# Altium footprint library ESC32.PcbLib: 26 footprints (part 1 of 2)
Each footprint in its own frame and in the unit in brackets; x right, y up, seen from the top. Pads: shape width x height; smd on the part's side, far side on the other; paste and mask are expansions set on the pad; w line width, h text height; cw(c..) or ccw(c..) is an arc to the next point about the centre after c.
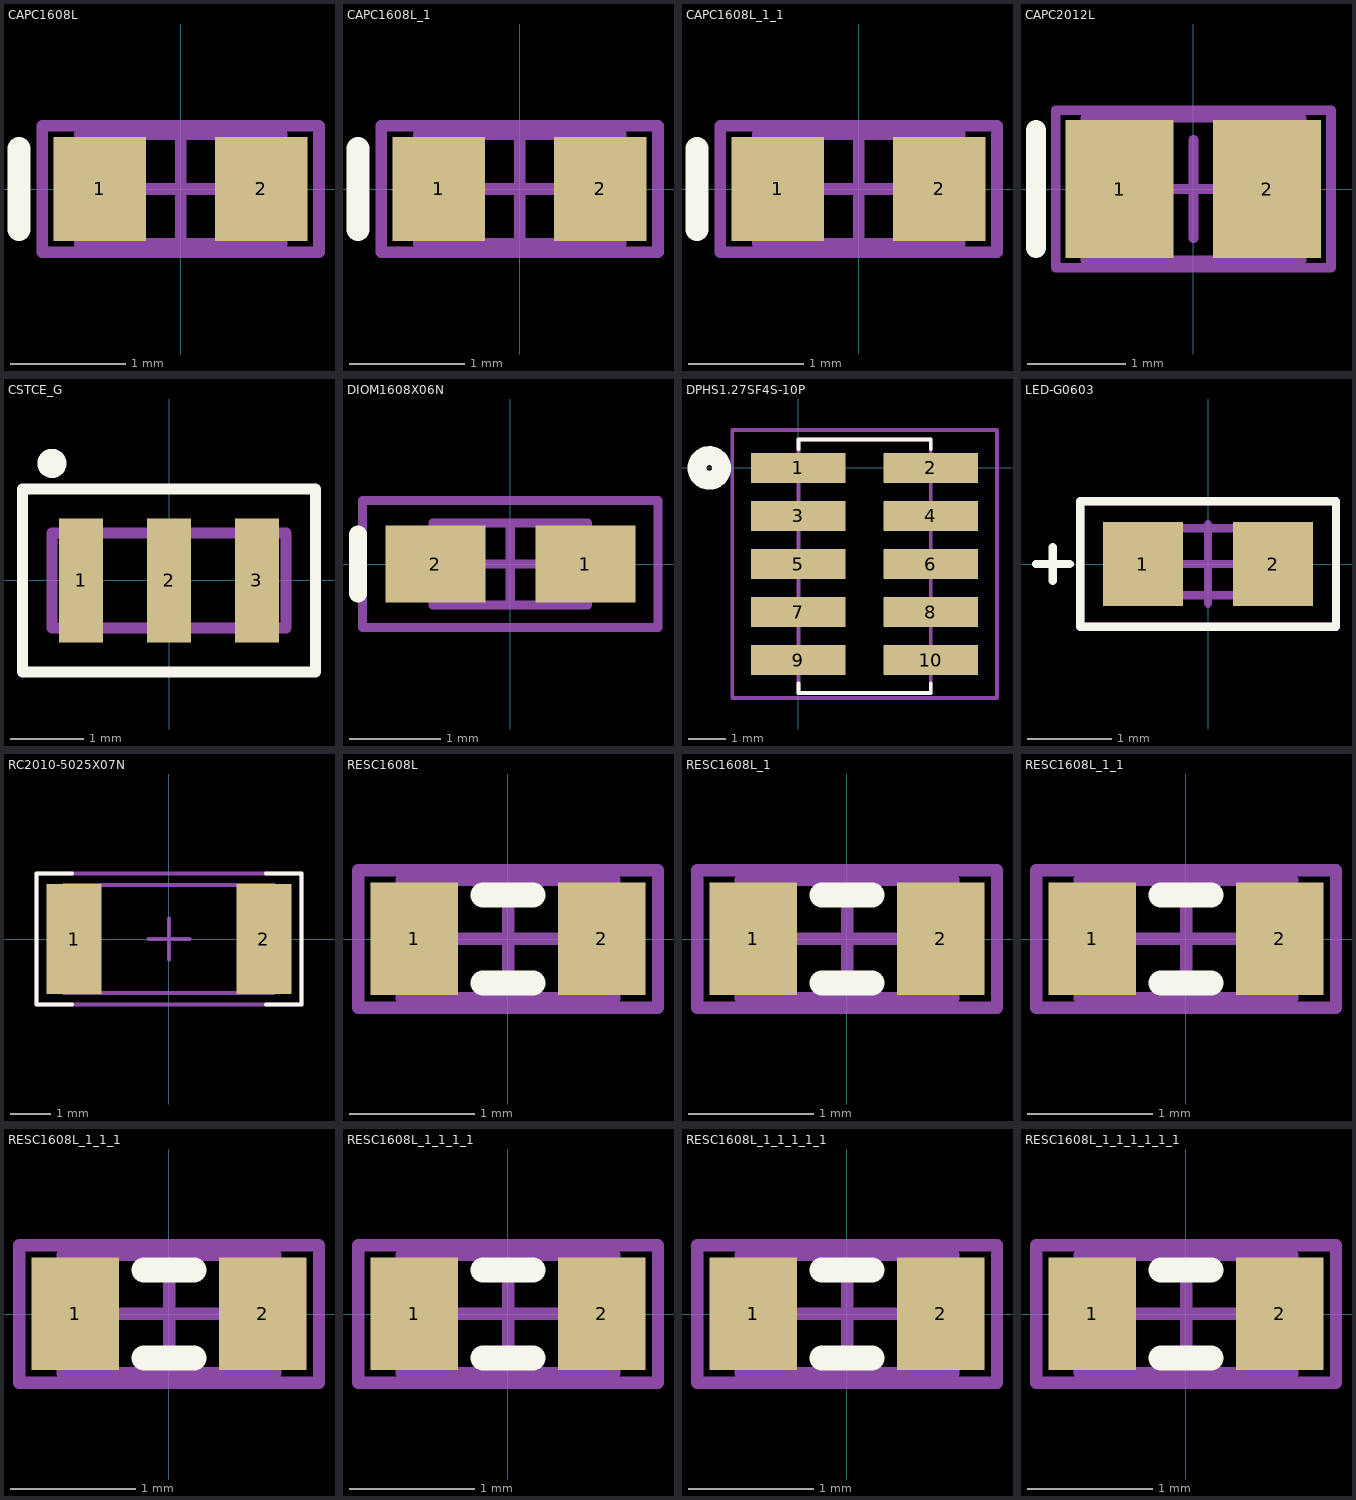
[diagram p0: the footprints below, top view; thin cyan lines are the x and y axes]

## CAPC1608L [mm]
pads (2):
  rect 0.8x0.9 smd: 1(-0.7,0) 2(0.7,0)
Top Overlay:
  lines w0.2: -1.4,-0.35 -1.4,0.35
Mechanical 13:
  lines w0.1: -0.875,-0.475 -0.875,0.475 0.875,0.475 0.875,-0.475 -0.875,-0.475
Mechanical 15:
  lines w0.1: -0.475,0 0.475,0 ; 0,-0.475 0,0.475 ; -1.2,-0.55 -1.2,0.55 1.2,0.55 1.2,-0.55 -1.2,-0.55
3D body: height 0.85, standoff 0, extent -0.875,-0.475 0.875,0.475

## CAPC1608L_1 [mm]
pads (2):
  rect 0.8x0.9 smd: 1(-0.7,0) 2(0.7,0)
Top Overlay:
  lines w0.2: -1.4,-0.35 -1.4,0.35
Mechanical 13:
  lines w0.1: -0.875,-0.475 -0.875,0.475 0.875,0.475 0.875,-0.475 -0.875,-0.475
Mechanical 15:
  lines w0.1: -0.475,0 0.475,0 ; 0,-0.475 0,0.475 ; -1.2,-0.55 -1.2,0.55 1.2,0.55 1.2,-0.55 -1.2,-0.55
3D body: height 0.85, standoff 0, extent -0.875,-0.475 0.875,0.475

## CAPC1608L_1_1 [mm]
pads (2):
  rect 0.8x0.9 smd: 1(-0.7,0) 2(0.7,0)
Top Overlay:
  lines w0.2: -1.4,-0.35 -1.4,0.35
Mechanical 13:
  lines w0.1: -0.875,-0.475 -0.875,0.475 0.875,0.475 0.875,-0.475 -0.875,-0.475
Mechanical 15:
  lines w0.1: -0.475,0 0.475,0 ; 0,-0.475 0,0.475 ; -1.2,-0.55 -1.2,0.55 1.2,0.55 1.2,-0.55 -1.2,-0.55
3D body: height 0.85, standoff 0, extent -0.875,-0.475 0.875,0.475

## CAPC2012L [mm]
pads (2):
  rect 1.1x1.4 smd: 1(-0.75,0) 2(0.75,0)
Top Overlay:
  lines w0.2: -1.6,-0.6 -1.6,0.6
Mechanical 13:
  lines w0.1: -1.1,-0.725 1.1,-0.725 1.1,0.725 -1.1,0.725 -1.1,-0.725
Mechanical 15:
  lines w0.1: -0.5,0 0.5,0 ; 0,-0.5 0,0.5 ; -1.4,-0.8 1.4,-0.8 1.4,0.8 -1.4,0.8 -1.4,-0.8
3D body: height 1.1, standoff 0, extent -1.1,-0.725 1.1,0.725

## CSTCE_G [mm]
pads (3):
  rect 0.6x1.7 smd: 1(-1.2,0) 2(0,0) 3(1.2,0)
Top Overlay:
  circle w0.2: c-1.6,1.6 r0.1
  lines w0.15: -2,-1.25 2,-1.25 2,1.25 -2,1.25 -2,-1.25
Mechanical 13:
  lines w0.15: -1.6,-0.65 -1.6,0.65 1.6,0.65 1.6,-0.65 -1.6,-0.65
3D body: height 0.7, standoff 0, extent -1.6,-0.65 1.6,0.65

## DIOM1608X06N [mm]
pads (2):
  rect 1.1x0.85 smd: 1(0.825,0) 2(-0.825,0)
Top Overlay:
  lines w0.2: -1.675,-0.325 -1.675,0.325
Mechanical 13:
  rectangle: -0.85,-0.45 -0.621,0.45
  lines w0.1: -0.85,-0.45 -0.85,0.45 0.85,0.45 0.85,-0.45 -0.85,-0.45
Mechanical 15:
  lines w0.1: -0.45,0 0.45,0 ; 0,-0.45 0,0.45 ; -1.625,-0.7 -1.625,0.7 1.625,0.7 1.625,-0.7 -1.625,-0.7
3D body: height 0.65, standoff 0, extent -0.85,-0.45 0.85,0.45

## DPHS1.27SF4S-10P [mm]
pads (10):
  rect 2.5x0.8 smd: 1(0,0) 2(3.5,0) 3(0,-1.27) 4(3.5,-1.27) 5(0,-2.54) 6(3.5,-2.54) 7(0,-3.81) 8(3.5,-3.81) 9(0,-5.08) 10(3.5,-5.08)
Top Overlay:
  circle w0.5: c-2.357,0 r0.325
  lines w0.1: 0,-5.7 0,-5.95 3.5,-5.95 3.5,-5.7 ; 0,0.5 0,0.75 3.5,0.75 3.5,0.5
Mechanical 13:
  lines w0.1: 0,-5.95 3.5,-5.95 ; 0,-5.95 3.5,-5.95 ; 0,-5.95 0,0.75 3.5,0.75 3.5,-5.95
Mechanical 15:
  lines w0.1: -1.75,-6.08 5.25,-6.08 5.25,1 -1.75,1 -1.75,-6.08

## LED-G0603 [mm]
pads (2):
  rect 0.95x1 smd: 1(-0.775,0) 2(0.775,0)
Top Overlay:
  lines w0.1: -2.05,0 -1.65,0 ; -1.85,-0.2 -1.85,0.2 ; -1.525,-0.75 1.525,-0.75 1.525,0.75 -1.525,0.75 -1.525,-0.75
Mechanical 13:
  lines w0.1: -0.799,-0.374 0.801,-0.374 0.801,0.426 -0.799,0.426 -0.799,-0.374
Mechanical 15:
  lines w0.1: -0.475,0 0.475,0 ; 0,-0.475 0,0.475 ; -1.525,-0.75 -1.525,0.75 1.525,0.75 1.525,-0.75 -1.525,-0.75
3D body: height 0.8, standoff 0.3, extent -0.599,-0.374 0.601,0.426
3D body: height 0.3, standoff 0, extent -0.799,-0.374 0.801,0.426
3D body: height 0.81, standoff 0.7, extent -0.199,-0.174 0.199,0.225

## RC2010-5025X07N [mm]
pads (2):
  rect 1.35x2.7 smd: 1(-2.325,0) 2(2.325,0)
Top Overlay:
  lines w0.1: -2.375,-1.6 -3.25,-1.6 -3.25,1.6 -2.375,1.6 ; 2.375,-1.6 3.25,-1.6 3.25,1.6 2.375,1.6
Mechanical 13:
  lines w0.1: -2.575,-1.325 2.575,-1.325 2.575,1.325 -2.575,1.325 -2.575,-1.325
Mechanical 15:
  lines w0.1: -0.5,0 0.5,0 ; 0,-0.5 0,0.5 ; -3.25,-1.6 3.25,-1.6 3.25,1.6 -3.25,1.6 -3.25,-1.6
3D body: height 0.7, standoff 0, extent -2.575,-1.325 2.575,1.325

## RESC1608L [mm]
pads (2):
  rect 0.7x0.9 smd: 1(-0.75,0) 2(0.75,0)
Top Overlay:
  lines w0.2: -0.2,-0.35 0.2,-0.35 ; -0.2,0.35 0.2,0.35
Mechanical 13:
  lines w0.1: -0.85,-0.475 -0.85,0.475 0.85,0.475 0.85,-0.475 -0.85,-0.475
Mechanical 15:
  lines w0.1: -0.475,0 0.475,0 ; 0,-0.475 0,0.475 ; -1.2,-0.55 -1.2,0.55 1.2,0.55 1.2,-0.55 -1.2,-0.55
3D body: height 0.6, standoff 0, extent -0.85,-0.475 0.85,0.475

## RESC1608L_1 [mm]
pads (2):
  rect 0.7x0.9 smd: 1(-0.75,0) 2(0.75,0)
Top Overlay:
  lines w0.2: -0.2,-0.35 0.2,-0.35 ; -0.2,0.35 0.2,0.35
Mechanical 13:
  lines w0.1: -0.85,-0.475 -0.85,0.475 0.85,0.475 0.85,-0.475 -0.85,-0.475
Mechanical 15:
  lines w0.1: -0.475,0 0.475,0 ; 0,-0.475 0,0.475 ; -1.2,-0.55 -1.2,0.55 1.2,0.55 1.2,-0.55 -1.2,-0.55
3D body: height 0.6, standoff 0, extent -0.85,-0.475 0.85,0.475

## RESC1608L_1_1 [mm]
pads (2):
  rect 0.7x0.9 smd: 1(-0.75,0) 2(0.75,0)
Top Overlay:
  lines w0.2: -0.2,-0.35 0.2,-0.35 ; -0.2,0.35 0.2,0.35
Mechanical 13:
  lines w0.1: -0.85,-0.475 -0.85,0.475 0.85,0.475 0.85,-0.475 -0.85,-0.475
Mechanical 15:
  lines w0.1: -0.475,0 0.475,0 ; 0,-0.475 0,0.475 ; -1.2,-0.55 -1.2,0.55 1.2,0.55 1.2,-0.55 -1.2,-0.55
3D body: height 0.6, standoff 0, extent -0.85,-0.475 0.85,0.475

## RESC1608L_1_1_1 [mm]
pads (2):
  rect 0.7x0.9 smd: 1(-0.75,0) 2(0.75,0)
Top Overlay:
  lines w0.2: -0.2,-0.35 0.2,-0.35 ; -0.2,0.35 0.2,0.35
Mechanical 13:
  lines w0.1: -0.85,-0.475 -0.85,0.475 0.85,0.475 0.85,-0.475 -0.85,-0.475
Mechanical 15:
  lines w0.1: -0.475,0 0.475,0 ; 0,-0.475 0,0.475 ; -1.2,-0.55 -1.2,0.55 1.2,0.55 1.2,-0.55 -1.2,-0.55
3D body: height 0.6, standoff 0, extent -0.85,-0.475 0.85,0.475

## RESC1608L_1_1_1_1 [mm]
pads (2):
  rect 0.7x0.9 smd: 1(-0.75,0) 2(0.75,0)
Top Overlay:
  lines w0.2: -0.2,-0.35 0.2,-0.35 ; -0.2,0.35 0.2,0.35
Mechanical 13:
  lines w0.1: -0.85,-0.475 -0.85,0.475 0.85,0.475 0.85,-0.475 -0.85,-0.475
Mechanical 15:
  lines w0.1: -0.475,0 0.475,0 ; 0,-0.475 0,0.475 ; -1.2,-0.55 -1.2,0.55 1.2,0.55 1.2,-0.55 -1.2,-0.55
3D body: height 0.6, standoff 0, extent -0.85,-0.475 0.85,0.475

## RESC1608L_1_1_1_1_1 [mm]
pads (2):
  rect 0.7x0.9 smd: 1(-0.75,0) 2(0.75,0)
Top Overlay:
  lines w0.2: -0.2,-0.35 0.2,-0.35 ; -0.2,0.35 0.2,0.35
Mechanical 13:
  lines w0.1: -0.85,-0.475 -0.85,0.475 0.85,0.475 0.85,-0.475 -0.85,-0.475
Mechanical 15:
  lines w0.1: -0.475,0 0.475,0 ; 0,-0.475 0,0.475 ; -1.2,-0.55 -1.2,0.55 1.2,0.55 1.2,-0.55 -1.2,-0.55
3D body: height 0.6, standoff 0, extent -0.85,-0.475 0.85,0.475

## RESC1608L_1_1_1_1_1_1 [mm]
pads (2):
  rect 0.7x0.9 smd: 1(-0.75,0) 2(0.75,0)
Top Overlay:
  lines w0.2: -0.2,-0.35 0.2,-0.35 ; -0.2,0.35 0.2,0.35
Mechanical 13:
  lines w0.1: -0.85,-0.475 -0.85,0.475 0.85,0.475 0.85,-0.475 -0.85,-0.475
Mechanical 15:
  lines w0.1: -0.475,0 0.475,0 ; 0,-0.475 0,0.475 ; -1.2,-0.55 -1.2,0.55 1.2,0.55 1.2,-0.55 -1.2,-0.55
3D body: height 0.6, standoff 0, extent -0.85,-0.475 0.85,0.475